# Altium integrated library LD1117S33CTR.IntLib: 1 symbol
Pins are listed as number, name and electrical type; pins without a type are passive.

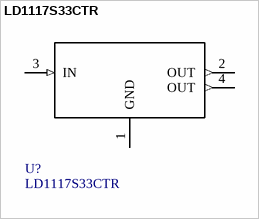
[diagram p0: symbol LD1117S33CTR]

## LD1117S33CTR
designator U?
/ LD1117 Series 1300 mA 3.3 V Fixed Output Positive Voltage LDO Regulator- SOT-223 /; MF: STMicroelectronics; Digi-Key_Part_Number: 497-1241-1-ND; Package: SOT-223 STMicroelectronics; MP: LD1117S33CTR; SnapEDA_Link: https://www.snapeda.com/parts/LD1117S33CTR/STMicroelectronics/view-part/?ref=snap; Digi-Key_Purchase_URL: https://www.digikey.ru/product-detail/en/stmicroelectronics/LD1117S33CTR/497-1241-1-ND/586241?utm_source=snapeda&utm_medium=aggregator&utm_campaign=symbol; Value: *
footprint *SOT223
pins: 1 GND, 2 OUT (out), 3 IN (in), 4 OUT (out)